# EAGLE library part LP2951ACSDX-3.3_NOPB (library LP2951ACSDX-3.3_NOPB)
Series of Adjustable Micropower Voltage Regulators Source: Datasheet <http://www.ti.com/lit/gpn/LP2951-N>
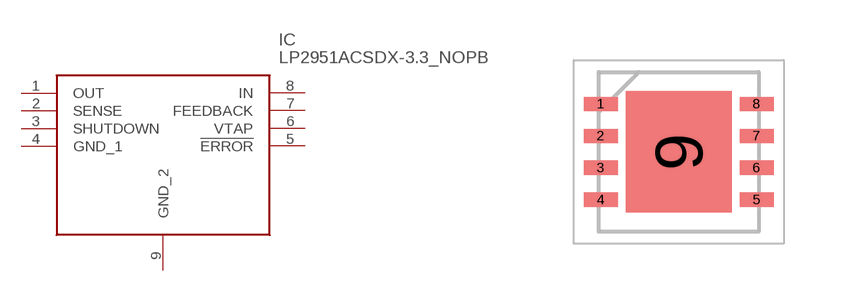
[diagram p0: symbol with the pads of SON80P400X400X80-9N; footprint SON80P400X400X80-9N]

Designator prefix IC

## LP2951ACSDX-3.3_NOPB (Description: Series of Adjustable Micropower Voltage Regulators; Height: 0.8mm; Manufacturer_Name: Texas Instruments; Manufacturer_Part_Number: LP2951ACSDX-3.3/NOPB; Mouser_Part_Number: 926-LP2951ACSDX33NPB; Mouser_Price-Stock: https://www.mouser.co.uk/ProductDetail/Texas-Instruments/LP2951ACSDX-3.3-NOPB?qs=7lkVKPoqpbbkq6LfzZBrqw%3D%3D)  [SON80P400X400X80-9N]
1  OUT
2  SENSE
3  SHUTDOWN
4  GND_1
5  !ERROR
6  VTAP
7  FEEDBACK
8  IN
9  GND_2

## Footprint SON80P400X400X80-9N (pad centres in mm)
NGT0008A_
smd 0.85 x 0.35: 1 -1.95,1.2; 2 -1.95,0.4; 3 -1.95,-0.4; 4 -1.95,-1.2; 5 1.95,-1.2; 6 1.95,-0.4; 7 1.95,0.4; 8 1.95,1.2
smd 2.65 x 3.05: 9 0,0